# EAGLE library part LT1618EMS (library fietslicht)
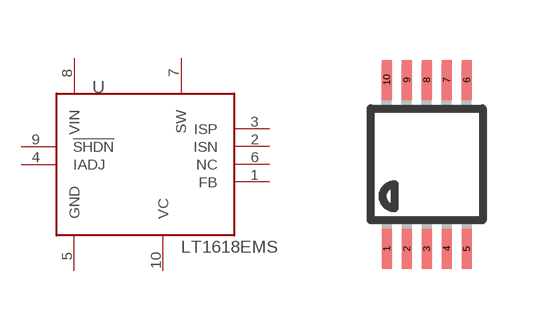
[diagram p2: symbol with the pads of MSOP10; footprint MSOP10]

Designator prefix U

## LT1618EMS  [MSOP10]
1  FB
2  ISN
3  ISP
4  IADJ
5  GND
6  NC
7  SW
8  VIN
9  !SHDN
10  VC

## Footprint MSOP10 (pad centres in mm)
10-Lead Mini Small Outline Package [MSOP] (RM-10) Source: http://www.analog.com/UploadedFiles/Data_Sheets/35641221898805SSM2167_b.pdf COMPLIANT TO JEDEC STANDARDS MO-187BA
smd 0.25 x 1: 1 -1,-2.113; 2 -0.5,-2.113; 3 0,-2.113; 4 0.5,-2.113; 5 1,-2.113; 6 1,2.113; 7 0.5,2.113; 8 0,2.113; 9 -0.5,2.113; 10 -1,2.113